# Altium schematic symbol library ESP32-DEVKITC-32D.SchLib: 1 symbol
Pins are listed as number, name and electrical type; pins without a type are passive.

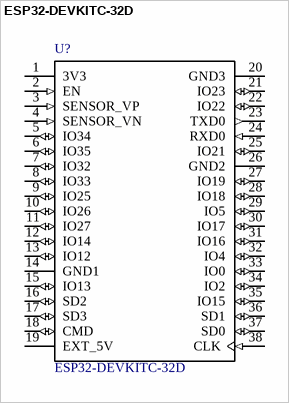
[diagram p0: symbol ESP32-DEVKITC-32D]

## ESP32-DEVKITC-32D
designator U?
Eval Board For Esp-Wroom-32; MF: Espressif Systems; MP: ESP32-DEVKITC-32D; Price: None; SnapEDA_Link: https://www.snapeda.com/parts/ESP32-DEVKITC-32D/Espressif%20Systems/view-part/?ref=snap; Package: None; Availability: Unavailable; Value: *
footprint MODULE_ESP32-DEVKITC-32D
pins: 1 3V3 (power), 2 EN (in), 3 SENSOR_VP (in), 4 SENSOR_VN (in), 5 IO34 (io), 6 IO35 (io), 7 IO32 (io), 8 IO33 (io), 9 IO25 (io), 10 IO26 (io), 11 IO27 (io), 12 IO14 (io), 13 IO12 (io), 14 GND1 (power), 15 IO13 (io), 16 SD2 (io), 17 SD3 (io), 18 CMD (io), 19 EXT_5V (power), 20 GND3 (power), 21 IO23 (io), 22 IO22 (io), 23 TXD0 (out), 24 RXD0 (in), 25 IO21 (io), 26 GND2 (power), 27 IO19 (io), 28 IO18 (io), 29 IO5 (io), 30 IO17 (io), 31 IO16 (io), 32 IO4 (io), 33 IO0 (io), 34 IO2 (io), 35 IO15 (io), 36 SD1 (io), 37 SD0 (io), 38 CLK (in)